# Altium footprint library SG__PCB_QFN_DFN.PcbLib: 60 footprints (part 2 of 4)
Each footprint in its own frame and in the unit in brackets; x right, y up, seen from the top. Pads: shape width x height; smd on the part's side, far side on the other; paste and mask are expansions set on the pad; w line width, h text height; cw(c..) or ccw(c..) is an arc to the next point about the centre after c.
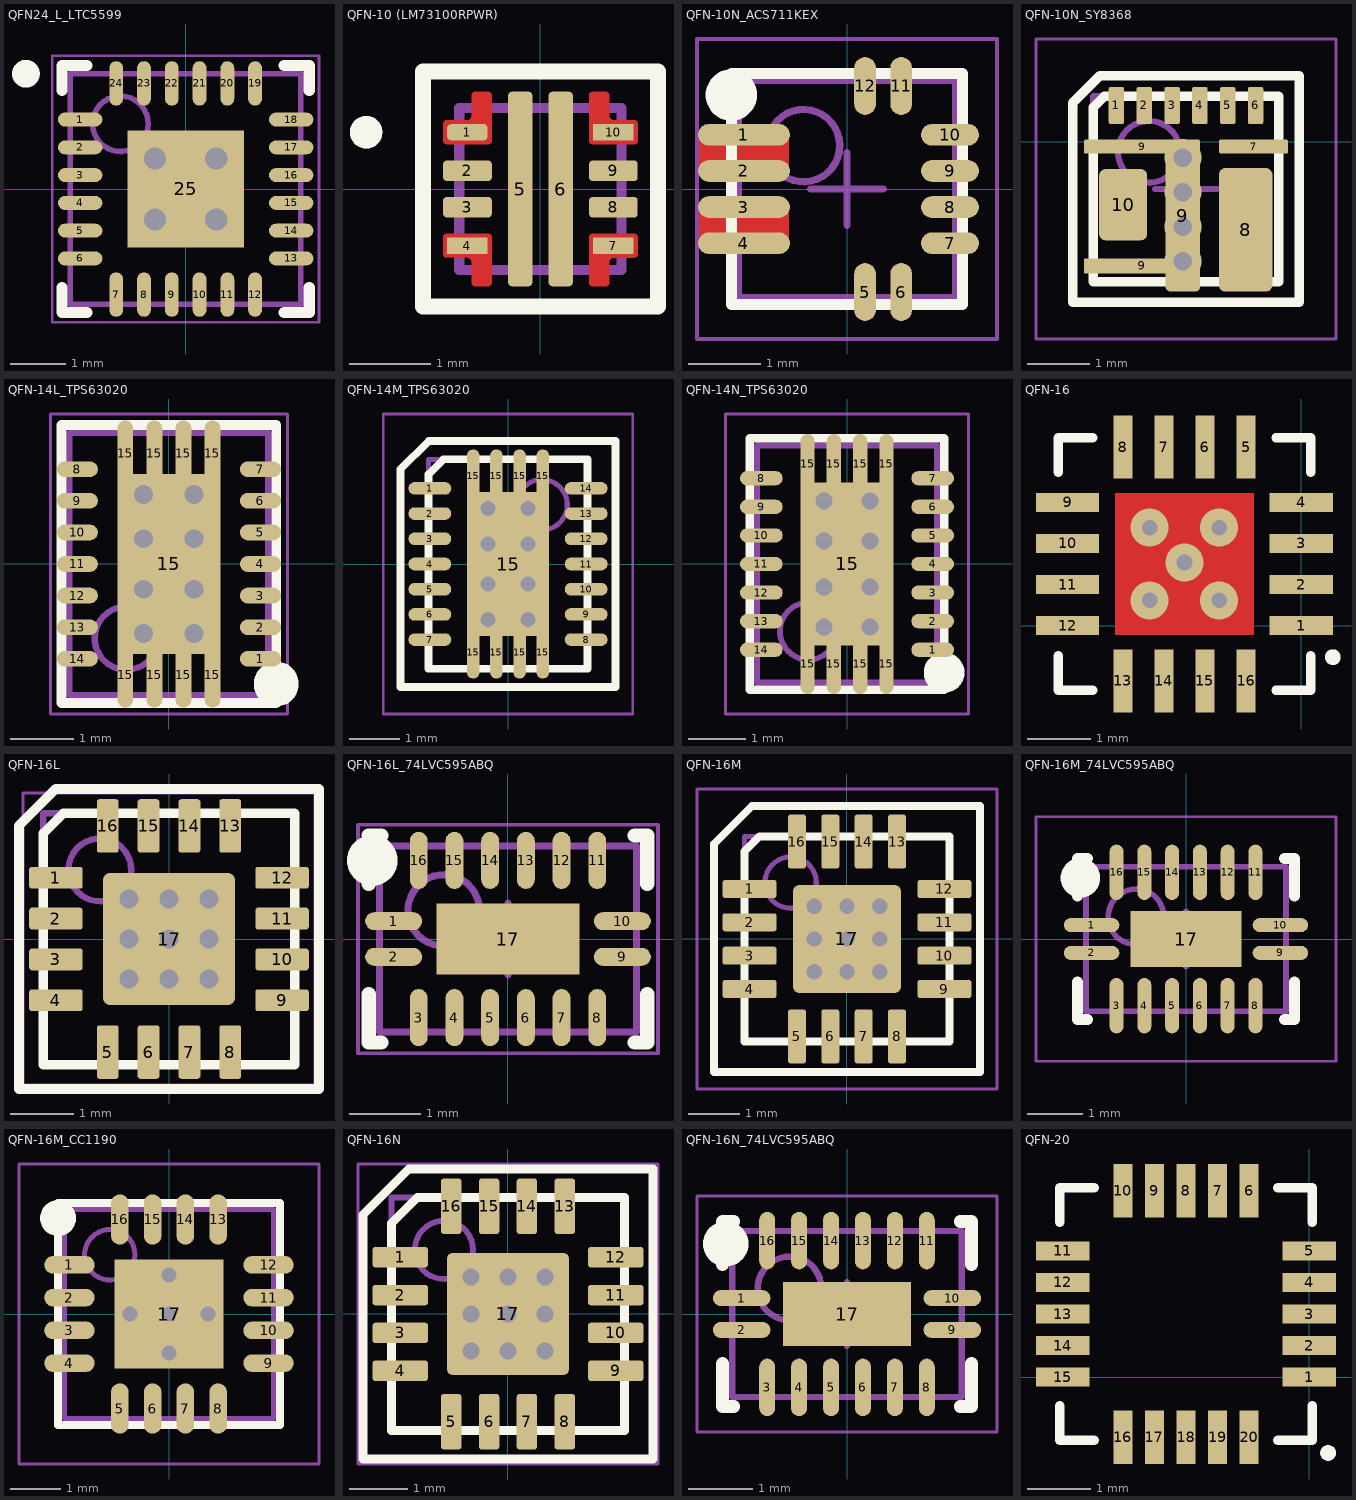
[diagram p1: the footprints below, top view; thin cyan lines are the x and y axes]

## QFN24_L_LTC5599 [mm] "QFN, 24-Leads, Body 4x4mm, Pitch 0.5mm, Thermal Pad 2.1x2.1mm, IPC High Density"
height 1
pads (25):
  oval 0.8x0.25 smd: 1(-1.9,1.25) 2(-1.9,0.75) 3(-1.9,0.25) 4(-1.9,-0.25) 5(-1.9,-0.75) 6(-1.9,-1.25) 13(1.9,-1.25) 14(1.9,-0.75) 15(1.9,-0.25) 16(1.9,0.25) 17(1.9,0.75) 18(1.9,1.25)
  oval 0.25x0.8 smd: 7(-1.25,-1.9) 8(-0.75,-1.9) 9(-0.25,-1.9) 10(0.25,-1.9) 11(0.75,-1.9) 12(1.25,-1.9) 19(1.25,1.9) 20(0.75,1.9) 21(0.25,1.9) 22(-0.25,1.9) 23(-0.75,1.9) 24(-1.25,1.9)
  rect 2.1x2.1 smd: 25(0,0)
via -0.55,0.55 diameter 0.8 hole 0.4
via 0.55,0.55 diameter 0.8 hole 0.4
via -0.55,-0.55 diameter 0.8 hole 0.4
via 0.55,-0.55 diameter 0.8 hole 0.4
Top Overlay:
  circle w0.25: c-2.875,2.075 r0.125
  lines w0.2: -2.225,-1.775 -2.225,-2.225 -1.775,-2.225 ; -2.225,1.775 -2.225,2.225 -1.775,2.225 ; 1.775,-2.225 2.225,-2.225 2.225,-1.775 ; 1.775,2.225 2.225,2.225 2.225,1.775
Top Assembly:
  circle w0.1: c-1.175,1.175 r0.5
  lines w0.1: -2.075,-2.075 -2.075,2.075 2.075,2.075 2.075,-2.075 -2.075,-2.075
Top Courtyard:
  lines w0.05: -2.4,-2.4 2.4,-2.4 2.4,2.4 -2.4,2.4 -2.4,-2.4
  lines w0.1: -0.5,0 0.5,0 ; 0,-0.5 0,0.5
3D body: height 1, standoff 0, extent -2.075,-2.075 2.075,2.075

## QFN-10 (LM73100RPWR) [mm]
pads (10):
  rrect50% 0.5x0.2 smd paste-1 mask+0: 1(-0.9,0.7)
  rrect33% 0.6x0.25 smd mask+0: 2(-0.9,0.225) 3(-0.9,-0.225) 8(0.9,-0.225) 9(0.9,0.225)
  rect 0.5x0.2 smd paste-1 mask+0: 4(-0.9,-0.7) 7(0.9,-0.7) 10(0.9,0.7)
  rrect33% 0.3x2.4 smd paste-2 mask+0: 5(-0.25,0) 6(0.25,0)
Top Layer:
  region: 174 vertices and 0 holes, not listed, extent -1.2,0.55 -0.6,1.2
  region: 174 vertices and 0 holes, not listed, extent 0.6,0.55 1.2,1.2
  region: 174 vertices and 0 holes, not listed, extent 0.6,-1.2 1.2,-0.55
  region: 174 vertices and 0 holes, not listed, extent -1.2,-1.2 -0.6,-0.55
Top Overlay:
  circle w0.2: c-2.15,0.7 r0.1
  lines w0.2: -1.45,-1.45 1.45,-1.45 1.45,1.45 -1.45,1.45 -1.45,-1.45
Top Paste:
  drawing of 8 lines, arcs and shapes, not listed
Top Solder:
  drawing of 10 lines, arcs and shapes, not listed
Top Assembly:
  lines w0.127: -1,-1 1,-1 1,1 -1,1 -1,-1
Mechanical 13:
  circle w0.2: c-2.15,0.7 r0.1
Mechanical 15:
  lines w0.05: -1.45,-1.45 1.45,-1.45 1.45,1.45 -1.45,1.45 -1.45,-1.45
3D body "step_temp.STEP": height 1, standoff 0, extent -1,-1 1,1

## QFN-10N_ACS711KEX [mm] "QFN, 16-Leads, Body 3,00x3,00mm, Pitch 0,50mm, IPC Medium Density"
height 0.75
pads (12):
  oval 1.27x0.3 smd: 1(-1.425,0.75) 2(-1.425,0.25) 3(-1.425,-0.25) 4(-1.425,-0.75)
  oval 0.3x0.8 smd: 5(0.25,-1.425) 6(0.75,-1.425) 11(0.75,1.425) 12(0.25,1.425)
  oval 0.8x0.3 smd: 7(1.425,-0.75) 8(1.425,-0.25) 9(1.425,0.25) 10(1.425,0.75)
Top Layer:
  rectangle: -2.05,-0.75 -0.8,-0.25
  rectangle: -2.05,0.25 -0.8,0.75
Top Overlay:
  circle w0.356: c-1.6,1.3 r0.178
  lines w0.152: -1.6,-1.6 -1.6,1.6 1.6,1.6 1.6,-1.6 -1.6,-1.6
Top Assembly:
  circle w0.1: c-0.6,0.6 r0.5
  lines w0.1: -1.5,-1.5 1.5,-1.5 1.5,1.5 -1.5,1.5 -1.5,-1.5
Top Courtyard:
  lines w0.05: -2.075,-2.075 2.075,-2.075 2.075,2.075 -2.075,2.075 -2.075,-2.075
  lines w0.1: -0.5,0 0.5,0 ; 0,-0.5 0,0.5
3D body "QFN50P300X300X75-16N.step": height 0.75, standoff 0, extent -1.58,-1.58 1.58,1.58

## QFN-10N_SY8368 [mm] "QFN, 24-Leads, Body 3,00x3,00mm, Pitch 0,45mm, IPC Low Density"
height 0.85
pads (12):
  rrect25% 0.25x0.6 smd: 1(3.218,0.588) 2(3.668,0.588) 3(4.118,0.588) 4(4.568,0.588) 5(5.018,0.588) 6(5.468,0.588)
  rrect25% 1.12x0.225 smd: 7(5.436,-0.076)
  rrect25% 0.87x2 smd: 8(5.309,-1.422)
  rrect25% 1.88x0.25 smd: 9(3.632,-2.007)
  rrect25% 1.88x0.225 smd: 9(3.632,-0.076)
  rrect25% 0.555x2.45 smd: 9(4.293,-1.194)
  rrect25% 0.775x1.15 smd: 10(3.327,-1.016)
via 4.293,-0.254 diameter 0.6 hole 0.3
via 4.293,-0.813 diameter 0.6 hole 0.3
via 4.293,-1.372 diameter 0.6 hole 0.3
via 4.293,-1.93 diameter 0.6 hole 0.3
Top Overlay:
  lines w0.152: 2.515,-2.591 2.515,0.635 2.946,1.067 6.172,1.067 6.172,-2.591 5.918,-2.591 5.08,-2.591 2.515,-2.591 ; 2.843,-2.262 2.843,0.557 3.024,0.738 5.843,0.738 5.843,-2.262 2.843,-2.262
Top Assembly:
  circle w0.1: c3.743,-0.162 r0.5
  lines w0.1: 2.843,-2.262 5.843,-2.262 5.843,0.738 2.843,0.738 2.843,-2.262
Top Courtyard:
  lines w0.05: 1.918,-3.187 6.768,-3.187 6.768,1.663 1.918,1.663 1.918,-3.187
  lines w0.1: 3.843,-0.762 4.843,-0.762 ; 4.343,-1.262 4.343,-0.262
3D body "QFN45P300X300X85-24M.step": height 0.85, standoff 0, extent 2.833,-2.272 5.853,0.748

## QFN-14L_TPS63020 [mm] "QFN, 14-Leads, Body 4,00x3,00mm, Pitch 0,50mm, Thermal Pad 2,85x1,58mm, IPC High Density"
height 1
pads (23):
  oval 0.65x0.25 smd: 1(1.45,-1.5) 2(1.45,-1) 3(1.45,-0.5) 4(1.45,0) 5(1.45,0.5) 6(1.45,1) 7(1.45,1.5) 8(-1.45,1.5) 9(-1.45,1) 10(-1.45,0.5) 11(-1.45,0) 12(-1.45,-0.5) 13(-1.45,-1) 14(-1.45,-1.5)
  oval 0.25x1.05 smd: 15(-0.69,-1.75) 15(-0.69,1.75) 15(-0.23,-1.75) 15(-0.23,1.75) 15(0.23,-1.75) 15(0.23,1.75) 15(0.69,-1.75) 15(0.69,1.75)
  rect 1.63x2.85 smd paste-1: 15(0,0)
via -0.4,-1.1 diameter 0.6 hole 0.3
via -0.4,-0.4 diameter 0.6 hole 0.3
via -0.4,1.1 diameter 0.6 hole 0.3
via -0.4,0.4 diameter 0.6 hole 0.3
via 0.4,1.1 diameter 0.6 hole 0.3
via 0.4,-1.1 diameter 0.6 hole 0.3
via 0.4,-0.4 diameter 0.6 hole 0.3
via 0.4,0.4 diameter 0.6 hole 0.3
Top Overlay:
  circle w0.356: c1.7,-1.9 r0.178
  lines w0.152: -1.7,-2.2 1.7,-2.2 1.7,2.2 -1.7,2.2 -1.7,-2.2
Top Paste:
  region: -0.1,0.1 -0.1,1.4 -0.8,1.4 -0.8,0.1
  region: -0.1,-1.4 -0.1,-0.1 -0.8,-0.1 -0.8,-1.4
  region: 0.8,-1.4 0.8,-0.1 0.1,-0.1 0.1,-1.4
  region: 0.8,0.1 0.8,1.4 0.1,1.4 0.1,0.1
Top Assembly:
  circle w0.1: c-0.675,-1.175 r0.5
  lines w0.1: -1.575,-2.075 1.575,-2.075 1.575,2.075 -1.575,2.075 -1.575,-2.075
Top Courtyard:
  lines w0.05: -1.875,-2.375 1.875,-2.375 1.875,2.375 -1.875,2.375 -1.875,-2.375
  lines w0.1: -0.5,0 0.5,0 ; 0,-0.5 0,0.5
3D body "QFN50P400X300X100_HS-15L.step": height 1, standoff 0, extent -1.655,-2.075 1.655,2.075

## QFN-14M_TPS63020 [mm] "QFN, 14-Leads, Body 4,00x3,00mm, Pitch 0,50mm, Thermal Pad 2,85x1,58mm, IPC Low Density"
height 1
pads (23):
  oval 0.85x0.25 smd: 1(-1.55,1.5) 2(-1.55,1) 3(-1.55,0.5) 4(-1.55,0) 5(-1.55,-0.5) 6(-1.55,-1) 7(-1.55,-1.5) 8(1.55,-1.5) 9(1.55,-1) 10(1.55,-0.5) 11(1.55,0) 12(1.55,0.5) 13(1.55,1) 14(1.55,1.5)
  oval 0.25x1.05 smd: 15(-0.69,-1.75) 15(-0.69,1.75) 15(-0.23,-1.75) 15(-0.23,1.75) 15(0.23,-1.75) 15(0.23,1.75) 15(0.69,-1.75) 15(0.69,1.75)
  rect 1.63x2.85 smd paste-1: 15(0,0)
via -0.4,-0.4 diameter 0.6 hole 0.3
via -0.4,0.4 diameter 0.6 hole 0.3
via -0.4,1.1 diameter 0.6 hole 0.3
via -0.4,-1.1 diameter 0.6 hole 0.3
via 0.4,-0.4 diameter 0.6 hole 0.3
via 0.4,-1.1 diameter 0.6 hole 0.3
via 0.4,0.4 diameter 0.6 hole 0.3
via 0.4,1.1 diameter 0.6 hole 0.3
Top Overlay:
  lines w0.152: -2.134,-2.438 -0.203,-2.438 2.134,-2.438 2.134,1.727 2.134,2.438 0.432,2.438 -1.575,2.438 -2.134,1.88 -2.134,-1.499 -2.134,-2.438 ; -1.575,-2.075 -1.575,1.778 -1.278,2.075 1.575,2.075 1.575,-2.075 -1.575,-2.075
Top Paste:
  region: -0.8,-0.1 -0.8,-1.4 -0.1,-1.4 -0.1,-0.1
  region: -0.8,1.4 -0.8,0.1 -0.1,0.1 -0.1,1.4
  region: 0.1,1.4 0.1,0.1 0.8,0.1 0.8,1.4
  region: 0.1,-0.1 0.1,-1.4 0.8,-1.4 0.8,-0.1
Top Assembly:
  circle w0.1: c0.675,1.175 r0.5
  lines w0.1: -1.575,-2.075 1.575,-2.075 1.575,2.075 -1.575,2.075 -1.575,-2.075
Top Courtyard:
  lines w0.05: -2.475,-2.975 2.475,-2.975 2.475,2.975 -2.475,2.975 -2.475,-2.975
  lines w0.1: -0.5,0 0.5,0 ; 0,-0.5 0,0.5
3D body "QFN50P400X300X100_HS-15M.step": height 1, standoff 0, extent -1.655,-2.075 1.655,2.075

## QFN-14N_TPS63020 [mm] "QFN, 14-Leads, Body 4,00x3,00mm, Pitch 0,50mm, Thermal Pad 2,85x1,58mm, IPC Medium Density"
height 1
pads (23):
  oval 0.75x0.25 smd: 1(1.5,-1.5) 2(1.5,-1) 3(1.5,-0.5) 4(1.5,0) 5(1.5,0.5) 6(1.5,1) 7(1.5,1.5) 8(-1.5,1.5) 9(-1.5,1) 10(-1.5,0.5) 11(-1.5,0) 12(-1.5,-0.5) 13(-1.5,-1) 14(-1.5,-1.5)
  oval 0.25x1.05 smd: 15(-0.69,-1.75) 15(-0.69,1.75) 15(-0.23,-1.75) 15(-0.23,1.75) 15(0.23,-1.75) 15(0.23,1.75) 15(0.69,-1.75) 15(0.69,1.75)
  rect 1.63x2.85 smd paste-1: 15(0,0)
via -0.4,-1.1 diameter 0.6 hole 0.3
via -0.4,-0.4 diameter 0.6 hole 0.3
via -0.4,1.1 diameter 0.6 hole 0.3
via -0.4,0.4 diameter 0.6 hole 0.3
via 0.4,1.1 diameter 0.6 hole 0.3
via 0.4,-1.1 diameter 0.6 hole 0.3
via 0.4,-0.4 diameter 0.6 hole 0.3
via 0.4,0.4 diameter 0.6 hole 0.3
Top Overlay:
  circle w0.356: c1.7,-1.9 r0.178
  lines w0.152: -1.7,-2.2 1.7,-2.2 1.7,2.2 -1.7,2.2 -1.7,-2.2
Top Paste:
  region: 0.8,0.1 0.8,1.4 0.1,1.4 0.1,0.1
  region: 0.8,-1.4 0.8,-0.1 0.1,-0.1 0.1,-1.4
  region: -0.1,-1.4 -0.1,-0.1 -0.8,-0.1 -0.8,-1.4
  region: -0.1,0.1 -0.1,1.4 -0.8,1.4 -0.8,0.1
Top Assembly:
  circle w0.1: c-0.675,-1.175 r0.5
  lines w0.1: -1.575,-2.075 -1.575,2.075 1.575,2.075 1.575,-2.075 -1.575,-2.075
Top Courtyard:
  lines w0.05: -2.125,-2.625 -2.125,2.625 2.125,2.625 2.125,-2.625 -2.125,-2.625
  lines w0.1: -0.5,0 0.5,0 ; 0,-0.5 0,0.5
3D body "QFN50P400X300X100_HS-15N.step": height 1, standoff 0, extent -1.655,-2.075 1.655,2.075

## QFN-16 [mm]
pads (16):
  rect 1x0.3 smd mask+0.05: 1(0,0) 2(0,0.65) 3(0,1.3) 4(0,1.95) 9(-3.7,1.95) 10(-3.7,1.3) 11(-3.7,0.65) 12(-3.7,0)
  rect 0.3x1 smd mask+0.05: 5(-0.875,2.825) 6(-1.525,2.825) 7(-2.175,2.825) 8(-2.825,2.825) 13(-2.825,-0.875) 14(-2.175,-0.875) 15(-1.525,-0.875) 16(-0.875,-0.875)
via -1.3,1.55 diameter 0.6 hole 0.25
via -1.3,0.4 diameter 0.6 hole 0.25
via -2.4,0.4 diameter 0.6 hole 0.25
via -2.4,1.55 diameter 0.6 hole 0.25
via -1.85,1 diameter 0.6 hole 0.25
Top Layer:
  rectangle: -2.95,-0.15 -0.75,2.1
Top Overlay:
  circle w0.15: c0.5,-0.5 r0.05
  lines w0.15: -3.85,-0.475 -3.85,-1.025 -3.3,-1.025 ; -3.85,2.425 -3.85,2.975 -3.3,2.975 ; -0.4,-1.025 0.15,-1.025 0.15,-0.475 ; -0.4,2.975 0.15,2.975 0.15,2.425
Top Paste:
  rectangle: -2.9,-0.05 -1.9,0.9
  rectangle: -1.8,-0.05 -0.8,0.9
  rectangle: -2.9,1.05 -1.9,2
  rectangle: -1.8,1.05 -0.8,2
Top Solder:
  rectangle: -3,-0.2 -0.7,2.15

## QFN-16L [mm] "QFN, 16-Leads, Body 4,00x4,00mm, Pitch 0,65mm, Thermal Pad 2,10x2,10mm, IPC High Density"
height 0.8
pads (17):
  rrect25% 0.85x0.35 smd: 1(-1.8,0.975) 2(-1.8,0.325) 3(-1.8,-0.325) 4(-1.8,-0.975) 9(1.8,-0.975) 10(1.8,-0.325) 11(1.8,0.325) 12(1.8,0.975)
  rrect25% 0.35x0.85 smd: 5(-0.975,-1.8) 6(-0.325,-1.8) 7(0.325,-1.8) 8(0.975,-1.8) 13(0.975,1.8) 14(0.325,1.8) 15(-0.325,1.8) 16(-0.975,1.8)
  rrect10% 2.1x2.1 smd paste-10: 17(0,0)
via 0.635,-0.635 diameter 0.6 hole 0.3
via 0,-0.635 diameter 0.6 hole 0.3
via -0.635,-0.635 diameter 0.6 hole 0.3
via -0.635,0.635 diameter 0.6 hole 0.3
via -0.635,0 diameter 0.6 hole 0.3
via 0.635,0.635 diameter 0.6 hole 0.3
via 0,0.635 diameter 0.6 hole 0.3
via 0.635,0 diameter 0.6 hole 0.3
via 0,0 diameter 0.6 hole 0.3
Top Overlay:
  lines w0.152: -2.388,-2.388 -2.388,-1.499 -2.388,1.803 -1.803,2.388 2.388,2.388 2.388,1.143 2.388,-0.432 2.388,-2.388 -0.965,-2.388 -2.388,-2.388 ; -2,-2 2,-2 2,2 -1.683,2 -2,1.683 -2,-2
Top Paste:
  rectangle: 0.127,0.127 1.016,1.016
  rectangle: -1.016,0.127 -0.127,1.016
  rectangle: 0.127,-1.016 1.016,-0.127
  rectangle: -1.016,-1.016 -0.127,-0.127
Top Assembly:
  circle w0.1: c-1.1,1.1 r0.5
  lines w0.1: -2,-2 2,-2 2,2 -2,2 -2,-2
Top Courtyard:
  lines w0.05: -2.325,-2.325 2.325,-2.325 2.325,2.325 -2.325,2.325 -2.325,-2.325
  lines w0.1: -0.5,0 0.5,0 ; 0,-0.5 0,0.5
3D body "QFN65P400X400X80_HS-17L.step": height 0.8, standoff 0, extent -2.01,-2.01 2.01,2.01

## QFN-16L_74LVC595ABQ [mm]
height 1
pads (17):
  oval 0.8x0.25 smd: 1(-1.6,0.25) 2(-1.6,-0.25) 9(1.6,-0.25) 10(1.6,0.25)
  oval 0.25x0.8 smd: 3(-1.25,-1.1) 4(-0.75,-1.1) 5(-0.25,-1.1) 6(0.25,-1.1) 7(0.75,-1.1) 8(1.25,-1.1) 11(1.25,1.1) 12(0.75,1.1) 13(0.25,1.1) 14(-0.25,1.1) 15(-0.75,1.1) 16(-1.25,1.1)
  rect 2x1 smd: 17(0,0)
Top Overlay:
  circle w0.356: c-1.9,1.1 r0.178
  lines w0.2: -1.95,-0.775 -1.95,-1.45 -1.775,-1.45 ; -1.95,0.775 -1.95,1.45 -1.775,1.45 ; 1.775,-1.45 1.95,-1.45 1.95,-0.775 ; 1.775,1.45 1.95,1.45 1.95,0.775
Top Assembly:
  circle w0.1: c-0.9,0.4 r0.5
  lines w0.1: -1.8,-1.3 1.8,-1.3 1.8,1.3 -1.8,1.3 -1.8,-1.3
Top Courtyard:
  lines w0.05: -2.1,-1.6 2.1,-1.6 2.1,1.6 -2.1,1.6 -2.1,-1.6
  lines w0.1: -0.5,0 0.5,0 ; 0,-0.5 0,0.5
3D body "QFN127P600-8N.step": height 1, standoff 0, extent -1.801,-1.301 1.801,1.301

## QFN-16M [mm] "QFN, 16-Leads, Body 4,00x4,00mm, Pitch 0,65mm, Thermal Pad 2,10x2,10mm, IPC Low Density"
height 0.8
pads (17):
  rrect25% 1.05x0.35 smd: 1(-1.9,0.975) 2(-1.9,0.325) 3(-1.9,-0.325) 4(-1.9,-0.975) 9(1.9,-0.975) 10(1.9,-0.325) 11(1.9,0.325) 12(1.9,0.975)
  rrect25% 0.35x1.05 smd: 5(-0.975,-1.9) 6(-0.325,-1.9) 7(0.325,-1.9) 8(0.975,-1.9) 13(0.975,1.9) 14(0.325,1.9) 15(-0.325,1.9) 16(-0.975,1.9)
  rrect10% 2.1x2.1 smd paste-10: 17(0,0)
via 0,0 diameter 0.6 hole 0.3
via 0.635,0 diameter 0.6 hole 0.3
via 0,0.635 diameter 0.6 hole 0.3
via 0.635,0.635 diameter 0.6 hole 0.3
via -0.635,0 diameter 0.6 hole 0.3
via -0.635,0.635 diameter 0.6 hole 0.3
via -0.635,-0.635 diameter 0.6 hole 0.3
via 0,-0.635 diameter 0.6 hole 0.3
via 0.635,-0.635 diameter 0.6 hole 0.3
Top Overlay:
  lines w0.152: -2.591,-2.591 -2.591,-1.372 -2.591,1.854 -1.854,2.591 -0.178,2.591 2.591,2.591 2.591,0.406 2.591,-2.591 -0.991,-2.591 -2.591,-2.591 ; -2,-2 2,-2 2,2 -1.708,2 -2,1.708 -2,-2
Top Paste:
  rectangle: -1.016,-1.016 -0.127,-0.127
  rectangle: 0.127,-1.016 1.016,-0.127
  rectangle: -1.016,0.127 -0.127,1.016
  rectangle: 0.127,0.127 1.016,1.016
Top Assembly:
  circle w0.1: c-1.1,1.1 r0.5
  lines w0.1: -2,-2 -2,2 2,2 2,-2 -2,-2
Top Courtyard:
  lines w0.05: -2.925,-2.925 -2.925,2.925 2.925,2.925 2.925,-2.925 -2.925,-2.925
  lines w0.1: -0.5,0 0.5,0 ; 0,-0.5 0,0.5
3D body "QFN65P400X400X80_HS-17M.step": height 0.8, standoff 0, extent -2.01,-2.01 2.01,2.01

## QFN-16M_74LVC595ABQ [mm]
height 1
pads (17):
  oval 1x0.25 smd: 1(-1.7,0.25) 2(-1.7,-0.25) 9(1.7,-0.25) 10(1.7,0.25)
  oval 0.25x1 smd: 3(-1.25,-1.2) 4(-0.75,-1.2) 5(-0.25,-1.2) 6(0.25,-1.2) 7(0.75,-1.2) 8(1.25,-1.2) 11(1.25,1.2) 12(0.75,1.2) 13(0.25,1.2) 14(-0.25,1.2) 15(-0.75,1.2) 16(-1.25,1.2)
  rect 2x1 smd: 17(0,0)
Top Overlay:
  circle w0.356: c-1.9,1.1 r0.178
  lines w0.2: -1.95,-0.775 -1.95,-1.45 -1.775,-1.45 ; -1.95,0.775 -1.95,1.45 -1.775,1.45 ; 1.775,-1.45 1.95,-1.45 1.95,-0.775 ; 1.775,1.45 1.95,1.45 1.95,0.775
Top Assembly:
  circle w0.1: c-0.9,0.4 r0.5
  lines w0.1: -1.8,-1.3 -1.8,1.3 1.8,1.3 1.8,-1.3 -1.8,-1.3
Top Courtyard:
  lines w0.05: -2.7,-2.2 -2.7,2.2 2.7,2.2 2.7,-2.2 -2.7,-2.2
  lines w0.1: -0.5,0 0.5,0 ; 0,-0.5 0,0.5
3D body "QFN127P600-8N.step": height 1, standoff 0, extent -1.801,-1.301 1.801,1.301

## QFN-16M_CC1190 [mm] "QFN, 16-Leads, Body 4,00x4,00mm, Pitch 0,65mm, Thermal Pad 2,16x2,16mm, IPC Low Density"
height 1
pads (21):
  oval 1x0.35 smd: 1(-1.975,0.975) 2(-1.975,0.325) 3(-1.975,-0.325) 4(-1.975,-0.975) 9(1.975,-0.975) 10(1.975,-0.325) 11(1.975,0.325) 12(1.975,0.975)
  oval 0.35x1 smd: 5(-0.975,-1.875) 6(-0.325,-1.875) 7(0.325,-1.875) 8(0.975,-1.875) 13(0.975,1.875) 14(0.325,1.875) 15(-0.325,1.875) 16(-0.975,1.875)
  rect 2.16x2.16 smd: 17(0,0)
  rect 0.9x0.9 on Top Solder paste-1 mask-0.05: ""(-0.6,-0.6) ""(-0.6,0.6) ""(0.6,-0.6) ""(0.6,0.6)
via 0,-0.775 diameter 0.6 hole 0.3
via 0.775,0 diameter 0.6 hole 0.3
via 0,0.775 diameter 0.6 hole 0.3
via -0.775,0 diameter 0.6 hole 0.3
via 0,0 diameter 0.6 hole 0.3
Top Overlay:
  circle w0.356: c-2.2,1.9 r0.178
  lines w0.152: -2.2,-2.2 -2.2,2.2 2.2,2.2 2.2,-2.2 -2.2,-2.2
Top Assembly:
  circle w0.1: c-1.175,1.175 r0.5
  lines w0.1: -2.075,-2.075 2.075,-2.075 2.075,2.075 -2.075,2.075 -2.075,-2.075
Top Courtyard:
  lines w0.05: -2.975,-2.975 2.975,-2.975 2.975,2.975 -2.975,2.975 -2.975,-2.975
  lines w0.1: -0.5,0 0.5,0 ; 0,-0.5 0,0.5
3D body "QFN65P400X400X100_HS-17M.step": height 1, standoff 0, extent -2.155,-2.155 2.155,2.155

## QFN-16N [mm] "QFN, 16-Leads, Body 4,00x4,00mm, Pitch 0,65mm, Thermal Pad 2,10x2,10mm, IPC Medium Density"
height 0.8
pads (17):
  rrect25% 0.95x0.35 smd: 1(-1.85,0.975) 2(-1.85,0.325) 3(-1.85,-0.325) 4(-1.85,-0.975) 9(1.85,-0.975) 10(1.85,-0.325) 11(1.85,0.325) 12(1.85,0.975)
  rrect25% 0.35x0.95 smd: 5(-0.975,-1.85) 6(-0.325,-1.85) 7(0.325,-1.85) 8(0.975,-1.85) 13(0.975,1.85) 14(0.325,1.85) 15(-0.325,1.85) 16(-0.975,1.85)
  rrect10% 2.1x2.1 smd paste-10: 17(0,0)
via 0.635,-0.635 diameter 0.6 hole 0.3
via 0,-0.635 diameter 0.6 hole 0.3
via -0.635,-0.635 diameter 0.6 hole 0.3
via -0.635,0.635 diameter 0.6 hole 0.3
via -0.635,0 diameter 0.6 hole 0.3
via 0.635,0.635 diameter 0.6 hole 0.3
via 0,0.635 diameter 0.6 hole 0.3
via 0.635,0 diameter 0.6 hole 0.3
via 0,0 diameter 0.6 hole 0.3
Top Overlay:
  lines w0.152: -2.489,-2.489 -2.489,-1.194 -2.489,1.702 -1.702,2.489 -1.092,2.489 2.489,2.489 2.489,-0.864 2.489,-2.489 0.965,-2.489 -2.489,-2.489 ; -2,-2 2,-2 2,2 -1.556,2 -2,1.556 -2,-2
Top Paste:
  rectangle: -1.016,-1.016 -0.127,-0.127
  rectangle: 0.127,-1.016 1.016,-0.127
  rectangle: -1.016,0.127 -0.127,1.016
  rectangle: 0.127,0.127 1.016,1.016
Top Assembly:
  circle w0.1: c-1.1,1.1 r0.5
  lines w0.1: -2,-2 -2,2 2,2 2,-2 -2,-2
Top Courtyard:
  lines w0.05: -2.575,-2.575 -2.575,2.575 2.575,2.575 2.575,-2.575 -2.575,-2.575
  lines w0.1: -0.5,0 0.5,0 ; 0,-0.5 0,0.5
3D body "QFN65P400X400X80_HS-17N.step": height 0.8, standoff 0, extent -2.01,-2.01 2.01,2.01

## QFN-16N_74LVC595ABQ [mm]
height 1
pads (17):
  oval 0.9x0.25 smd: 1(-1.65,0.25) 2(-1.65,-0.25) 9(1.65,-0.25) 10(1.65,0.25)
  oval 0.25x0.9 smd: 3(-1.25,-1.15) 4(-0.75,-1.15) 5(-0.25,-1.15) 6(0.25,-1.15) 7(0.75,-1.15) 8(1.25,-1.15) 11(1.25,1.15) 12(0.75,1.15) 13(0.25,1.15) 14(-0.25,1.15) 15(-0.75,1.15) 16(-1.25,1.15)
  rect 2x1 smd: 17(0,0)
Top Overlay:
  circle w0.356: c-1.9,1.1 r0.178
  lines w0.2: -1.95,-0.775 -1.95,-1.45 -1.775,-1.45 ; -1.95,0.775 -1.95,1.45 -1.775,1.45 ; 1.775,-1.45 1.95,-1.45 1.95,-0.775 ; 1.775,1.45 1.95,1.45 1.95,0.775
Top Assembly:
  circle w0.1: c-0.9,0.4 r0.5
  lines w0.1: -1.8,-1.3 -1.8,1.3 1.8,1.3 1.8,-1.3 -1.8,-1.3
Top Courtyard:
  lines w0.05: -2.35,-1.85 -2.35,1.85 2.35,1.85 2.35,-1.85 -2.35,-1.85
  lines w0.1: -0.5,0 0.5,0 ; 0,-0.5 0,0.5
3D body "QFN127P600-8N.step": height 1, standoff 0, extent -1.801,-1.301 1.801,1.301

## QFN-20 [mm]
pads (20):
  rect 0.85x0.3 smd mask+0.05: 1(0,0) 2(0,0.5) 3(0,1) 4(0,1.5) 5(0,2) 11(-3.9,2) 12(-3.9,1.5) 13(-3.9,1) 14(-3.9,0.5) 15(-3.9,0)
  rect 0.3x0.85 smd mask+0.05: 6(-0.95,2.95) 7(-1.45,2.95) 8(-1.95,2.95) 9(-2.45,2.95) 10(-2.95,2.95) 16(-2.95,-0.95) 17(-2.45,-0.95) 18(-1.95,-0.95) 19(-1.45,-0.95) 20(-0.95,-0.95)
Top Overlay:
  circle w0.15: c0.3,-1.2 r0.05
  lines w0.15: -3.95,-0.45 -3.95,-1 -3.4,-1 ; -3.95,2.45 -3.95,3 -3.4,3 ; -0.5,-1 0.05,-1 0.05,-0.45 ; -0.5,3 0.05,3 0.05,2.45